# Altium schematic symbol library Power.SchLib: 1 symbol
Pins are listed as number, name and electrical type; pins without a type are passive.

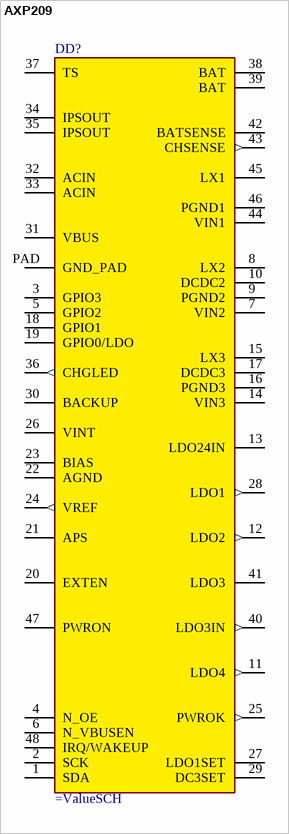
[diagram p0: symbol AXP209]

## AXP209
designator DD?
pins: 1 SDA, 2 SCK, 3 GPIO3, 4 N_OE, 5 GPIO2, 6 N_VBUSEN, 7 VIN2 (power), 8 LX2, 9 PGND2 (power), 10 DCDC2, 11 LDO4 (out), 12 LDO2 (out), 13 LDO24IN (power), 14 VIN3 (power), 15 LX3, 16 PGND3 (power), 17 DCDC3, 18 GPIO1, 19 GPIO0/LDO, 20 EXTEN, 21 APS (power), 22 AGND (power), 23 BIAS, 24 VREF (out), 25 PWROK (out), 26 VINT (power), 27 LDO1SET, 28 LDO1 (out), 29 DC3SET, 30 BACKUP, 31 VBUS (power), 32 ACIN (power), 33 ACIN (power), 34 IPSOUT, 35 IPSOUT, 36 CHGLED (out), 37 TS, 38 BAT (power), 39 BAT (power), 40 LDO3IN (out), 41 LDO3, 42 BATSENSE, 43 CHSENSE (out), 44 VIN1 (power), 45 LX1, 46 PGND1 (power), 47 PWRON, 48 IRQ/WAKEUP, PAD GND_PAD